# Altium integrated library Analog Devices Data Converters Digital-to-Analog Converters.IntLib: 2231 symbols (part 122 of 181)
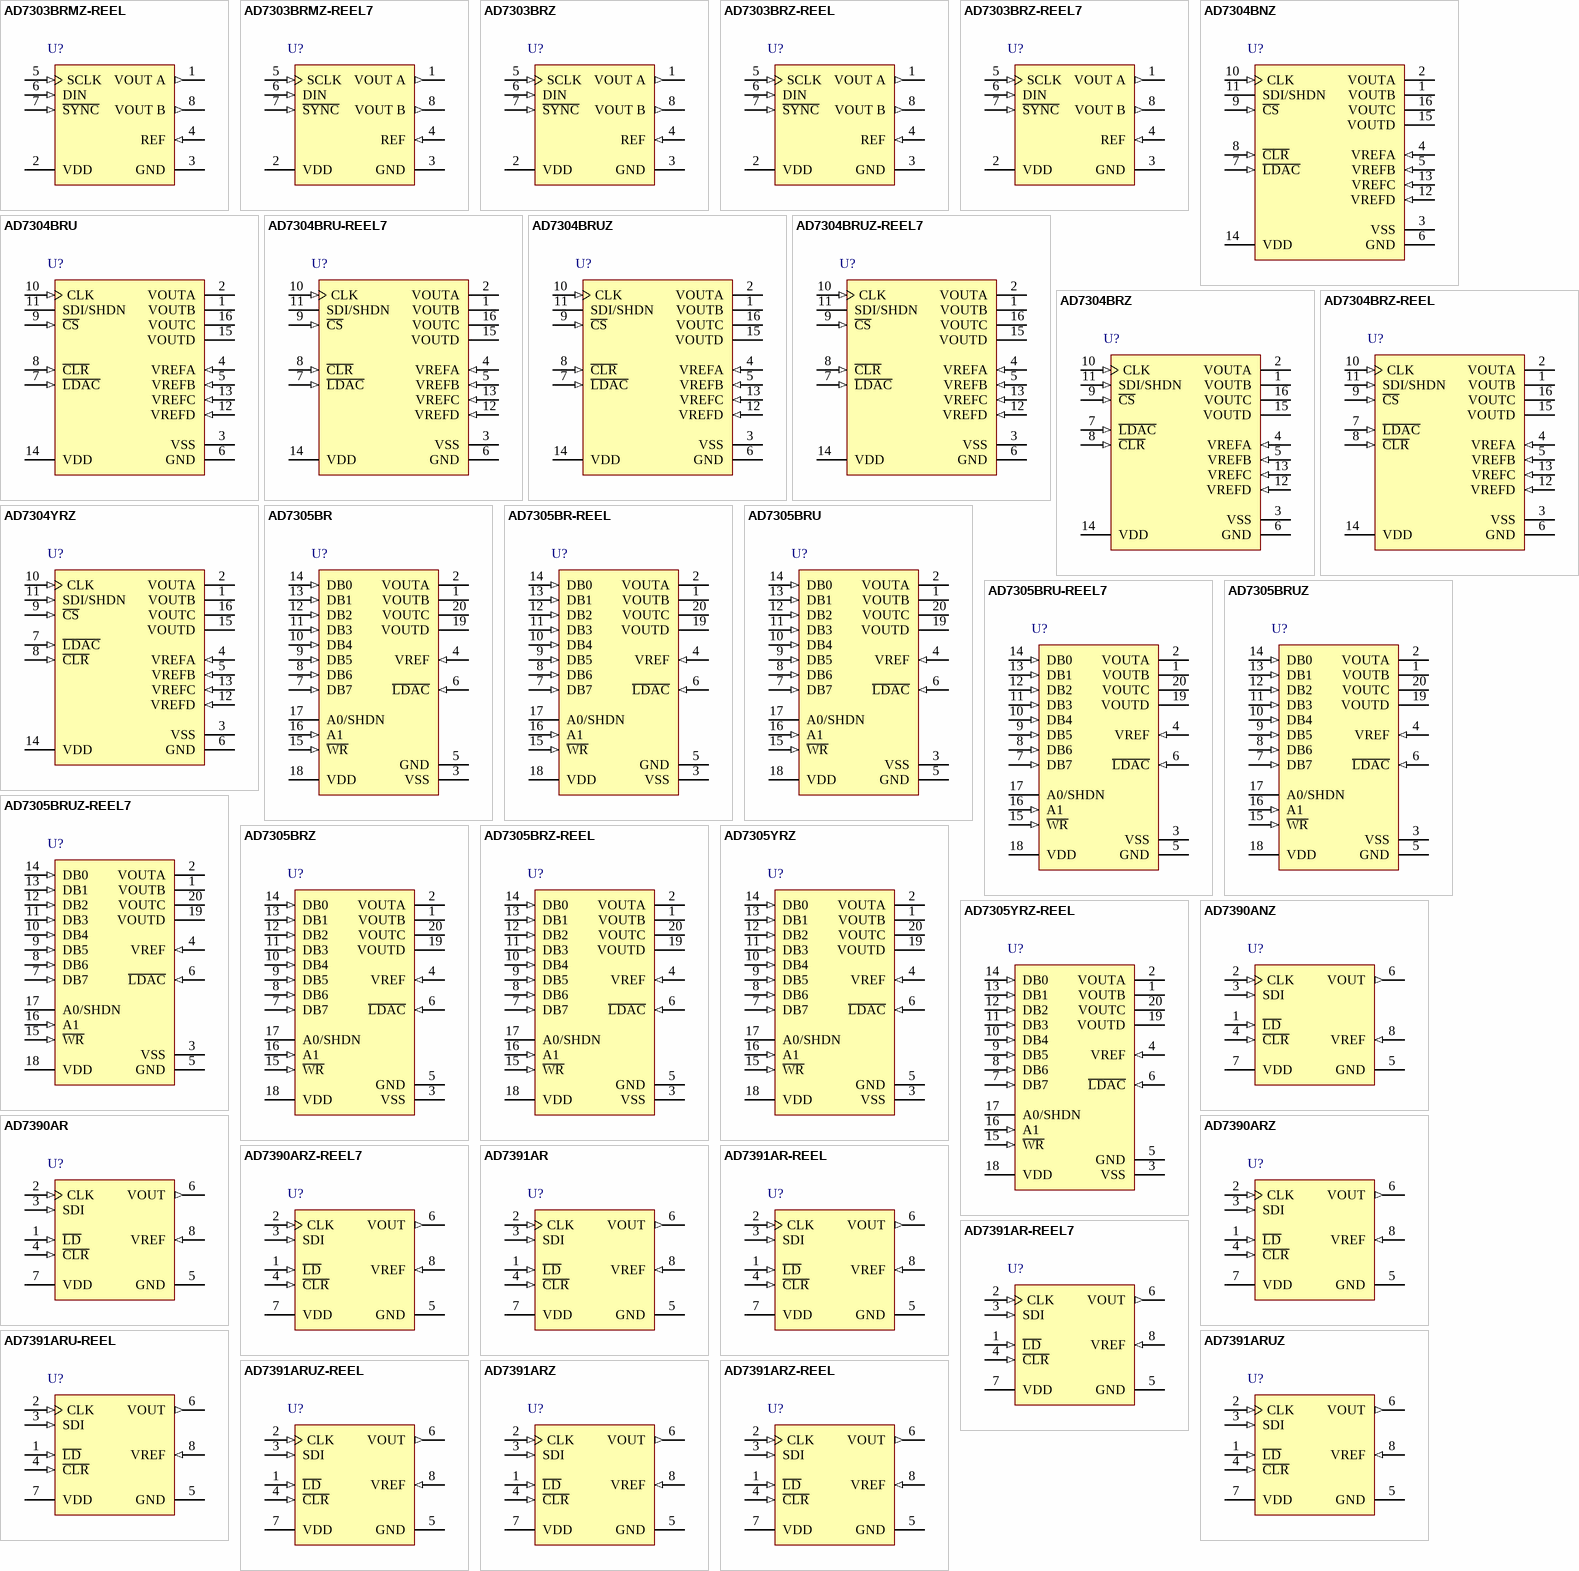
[diagram p235: symbols AD7303BRMZ-REEL to AD7391ARZ-REEL]

## AD7390AR
designator U?
Single 12-Bit Digital-to-Analog Converter with Serial Interface, -40 to 85 degC, R-8, Tube; Generic Part Number: AD7390; Manufacturer: Analog Devices; PartNumber: AD7390AR; # DAC Outputs: 1; Max V+: 5.5V; Op Pwr Diss: 500µW; Resolution (Bits): 12; Settling Time: 60µs; Single Supply: Yes; DatasheetVersion: Rev.A; PackageVersion: 060506-A; PackageReference: R-8; PackageDescription: 8-Lead Standard Small Outline Package [SOIC_N] Narrow Body; Supplier 1: Digi-Key; Supplier Part Number 1: AD7390AR-ND; Supplier 2: Mouser; Supplier Part Number 2: 584-AD7390AR; Packing: Tube; RoHS: N; Mounting Technology: Surface Mount; Code_JEDEC: MS-012-AA; Code_IPC: SOIC127P600-8; ComponentLink1Description: Manufacturer URL; ComponentLink1URL: http://www.analog.com/en/index.html; ComponentLink2Description: Datasheet; ComponentLink2URL: http://www.analog.com/static/imported-files/data_sheets/AD7390_7391.pdf; ComponentLink3Description: Package Specification; ComponentLink3URL: http://www.analog.com/static/imported-files/packages/PKG_PDF/SOIC_Narrow%20(R)/R_8.pdf; ComponentLink4Description: Product URL; ComponentLink4URL: http://www.analog.com/en/digital-to-analog-converters/da-converters/ad7390/products/product.html
footprint R-8_N (SOIC, 8-Leads, Body 4.9x3.9mm, Pitch 1.27mm, IPC Medium Density)
footprint R-8_L (SOIC, 8-Leads, Body 4.9x3.9mm, Pitch 1.27mm, IPC High Density)
footprint R-8_M (SOIC, 8-Leads, Body 4.9x3.9mm, Pitch 1.27mm, IPC Low Density)
pins: 1 ~{LD} (in) "Load Strobe. Transfers shift registerdata to DAC register while active low.See truth table for operation.", 2 CLK (in) "Clock Input. Positive edge clocks data into shift register.", 3 SDI (in) "Serial Data Input. Data loads directly into the shift register.", 4 ~{CLR} (in) "Resets DAC register to zero condition.Active low input.", 5 GND (power) "Analog and Digital Ground.", 6 VOUT (out) "DAC Voltage Output. Full-scale output 1 LSB less than reference input voltage REF.", 7 VDD (power) "Positive Power Supply Input. Specified range of operation 2.7 V to 5.5 V.", 8 VREF (in) "DAC Reference Input Pin. Establishes DAC full-scale voltage."

## AD7390ARZ
designator U?
Single 12-Bit Digital-to-Analog Converter with Serial Interface, -40 to 85 degC, R-8, Pb-Free, Tube; Generic Part Number: AD7390; Manufacturer: Analog Devices; PartNumber: AD7390ARZ; # DAC Outputs: 1; Max V+: 5.5V; Op Pwr Diss: 500µW; Resolution (Bits): 12; Settling Time: 60µs; Single Supply: Yes; DatasheetVersion: Rev.A; PackageVersion: 060506-A; PackageReference: R-8; PackageDescription: 8-Lead Standard Small Outline Package [SOIC_N] Narrow Body; Supplier 1: Digi-Key; Supplier Part Number 1: AD7390ARZ-ND; Supplier 2: Farnell; Supplier Part Number 2: 1498718; Supplier 3: Newark; Supplier Part Number 3: 15P0796; Supplier 4: Newark; Supplier Part Number 4: 59K4759; Supplier 5: Mouser; Supplier Part Number 5: 584-AD7390ARZ; Packing: Tube; RoHS: Y; Mounting Technology: Surface Mount; Code_JEDEC: MS-012-AA; Code_IPC: SOIC127P600-8; ComponentLink1Description: Manufacturer URL; ComponentLink1URL: http://www.analog.com/en/index.html; ComponentLink2Description: Datasheet; ComponentLink2URL: http://www.analog.com/static/imported-files/data_sheets/AD7390_7391.pdf; ComponentLink3Description: Package Specification; ComponentLink3URL: http://www.analog.com/static/imported-files/packages/PKG_PDF/SOIC_Narrow%20(R)/R_8.pdf; ComponentLink4Description: Product URL; ComponentLink4URL: http://www.analog.com/en/digital-to-analog-converters/da-converters/ad7390/products/product.html
footprint R-8_N (SOIC, 8-Leads, Body 4.9x3.9mm, Pitch 1.27mm, IPC Medium Density)
footprint R-8_L (SOIC, 8-Leads, Body 4.9x3.9mm, Pitch 1.27mm, IPC High Density)
footprint R-8_M (SOIC, 8-Leads, Body 4.9x3.9mm, Pitch 1.27mm, IPC Low Density)
pins: 1 ~{LD} (in) "Load Strobe. Transfers shift registerdata to DAC register while active low.See truth table for operation.", 2 CLK (in) "Clock Input. Positive edge clocks data into shift register.", 3 SDI (in) "Serial Data Input. Data loads directly into the shift register.", 4 ~{CLR} (in) "Resets DAC register to zero condition.Active low input.", 5 GND (power) "Analog and Digital Ground.", 6 VOUT (out) "DAC Voltage Output. Full-scale output 1 LSB less than reference input voltage REF.", 7 VDD (power) "Positive Power Supply Input. Specified range of operation 2.7 V to 5.5 V.", 8 VREF (in) "DAC Reference Input Pin. Establishes DAC full-scale voltage."

## AD7390ARZ-REEL7
designator U?
Single 12-Bit Digital-to-Analog Converter with Serial Interface, -40 to 85 degC, R-8, Pb-Free, Reel; Generic Part Number: AD7390; Manufacturer: Analog Devices; PartNumber: AD7390ARZ-REEL7; # DAC Outputs: 1; Max V+: 5.5V; Op Pwr Diss: 500µW; Resolution (Bits): 12; Settling Time: 60µs; Single Supply: Yes; DatasheetVersion: Rev.A; PackageVersion: 060506-A; PackageReference: R-8; PackageDescription: 8-Lead Standard Small Outline Package [SOIC_N] Narrow Body; Supplier 1: Digi-Key; Supplier Part Number 1: AD7390ARZ-REEL7TR-ND; Supplier 2: Digi-Key; Supplier Part Number 2: AD7390ARZ-REEL7CT-ND; Supplier 3: Digi-Key; Supplier Part Number 3: AD7390ARZ-REEL7DKR-ND; Supplier 4: Newark; Supplier Part Number 4: 59K4760; Supplier 5: Mouser; Supplier Part Number 5: 584-AD7390ARZ-R7; Packing: Reel; RoHS: Y; Mounting Technology: Surface Mount; Code_JEDEC: MS-012-AA; Code_IPC: SOIC127P600-8; ComponentLink1Description: Manufacturer URL; ComponentLink1URL: http://www.analog.com/en/index.html; ComponentLink2Description: Datasheet; ComponentLink2URL: http://www.analog.com/static/imported-files/data_sheets/AD7390_7391.pdf; ComponentLink3Description: Package Specification; ComponentLink3URL: http://www.analog.com/static/imported-files/packages/PKG_PDF/SOIC_Narrow%20(R)/R_8.pdf; ComponentLink4Description: Product URL; ComponentLink4URL: http://www.analog.com/en/digital-to-analog-converters/da-converters/ad7390/products/product.html
footprint R-8_N (SOIC, 8-Leads, Body 4.9x3.9mm, Pitch 1.27mm, IPC Medium Density)
footprint R-8_L (SOIC, 8-Leads, Body 4.9x3.9mm, Pitch 1.27mm, IPC High Density)
footprint R-8_M (SOIC, 8-Leads, Body 4.9x3.9mm, Pitch 1.27mm, IPC Low Density)
pins: 1 ~{LD} (in) "Load Strobe. Transfers shift registerdata to DAC register while active low.See truth table for operation.", 2 CLK (in) "Clock Input. Positive edge clocks data into shift register.", 3 SDI (in) "Serial Data Input. Data loads directly into the shift register.", 4 ~{CLR} (in) "Resets DAC register to zero condition.Active low input.", 5 GND (power) "Analog and Digital Ground.", 6 VOUT (out) "DAC Voltage Output. Full-scale output 1 LSB less than reference input voltage REF.", 7 VDD (power) "Positive Power Supply Input. Specified range of operation 2.7 V to 5.5 V.", 8 VREF (in) "DAC Reference Input Pin. Establishes DAC full-scale voltage."

## AD7391AR
designator U?
Single 10-Bit Digital-to-Analog Converter with Serial Interface, -40 to 125 degC, R-8, Tube; Generic Part Number: AD7391; Manufacturer: Analog Devices; PartNumber: AD7391AR; # DAC Outputs: 1; Max V+: 5.5V; Op Pwr Diss: 500µW; Resolution (Bits): 10; Settling Time: 60µs; Single Supply: Yes; DatasheetVersion: Rev.A; PackageVersion: 060506-A; PackageReference: R-8; PackageDescription: 8-Lead Standard Small Outline Package [SOIC_N] Narrow Body; Supplier 1: Digi-Key; Supplier Part Number 1: AD7391AR-ND; Supplier 2: Mouser; Supplier Part Number 2: 584-AD7391AR; Packing: Tube; RoHS: N; Mounting Technology: Surface Mount; Code_JEDEC: MS-012-AA; Code_IPC: SOIC127P600-8; ComponentLink1Description: Manufacturer URL; ComponentLink1URL: http://www.analog.com/en/index.html; ComponentLink2Description: Datasheet; ComponentLink2URL: http://www.analog.com/static/imported-files/data_sheets/AD7390_7391.pdf; ComponentLink3Description: Package Specification; ComponentLink3URL: http://www.analog.com/static/imported-files/packages/PKG_PDF/SOIC_Narrow%20(R)/R_8.pdf; ComponentLink4Description: Product URL; ComponentLink4URL: http://www.analog.com/en/digital-to-analog-converters/da-converters/ad7391/products/product.html
footprint R-8_N (SOIC, 8-Leads, Body 4.9x3.9mm, Pitch 1.27mm, IPC Medium Density)
footprint R-8_L (SOIC, 8-Leads, Body 4.9x3.9mm, Pitch 1.27mm, IPC High Density)
footprint R-8_M (SOIC, 8-Leads, Body 4.9x3.9mm, Pitch 1.27mm, IPC Low Density)
pins: 1 ~{LD} (in) "Load Strobe. Transfers shift register data to DAC register while active low.See truth table for operation.", 2 CLK (in) "Clock Input. Positive edge clocks data into shift register.", 3 SDI (in) "Serial Data Input. Data loads directly into the shift register.", 4 ~{CLR} (in) "Resets DAC register to zero condition.Active low input.", 5 GND (power) "Analog and Digital Ground.", 6 VOUT (out) "DAC Voltage Output. Full-scale output 1 LSB less than reference input voltage REF.", 7 VDD (power) "Positive Power Supply Input. Specified range of operation 2.7 V to 5.5 V.", 8 VREF (in) "DAC Reference Input Pin. Establishes DAC full-scale voltage."

## AD7391AR-REEL
designator U?
Single 10-Bit Digital-to-Analog Converter with Serial Interface, -40 to 125 degC, R-8, Reel; Generic Part Number: AD7391; Manufacturer: Analog Devices; PartNumber: AD7391AR-REEL; # DAC Outputs: 1; Max V+: 5.5V; Op Pwr Diss: 500µW; Resolution (Bits): 10; Settling Time: 60µs; Single Supply: Yes; DatasheetVersion: Rev.A; PackageVersion: 060506-A; PackageReference: R-8; PackageDescription: 8-Lead Standard Small Outline Package [SOIC_N] Narrow Body; Supplier 1: Digi-Key; Supplier Part Number 1: AD7391AR-REEL-ND; Supplier 2: Mouser; Supplier Part Number 2: 584-AD7391AR-R; Packing: Reel; RoHS: N; Mounting Technology: Surface Mount; Code_JEDEC: MS-012-AA; Code_IPC: SOIC127P600-8; ComponentLink1Description: Manufacturer URL; ComponentLink1URL: http://www.analog.com/en/index.html; ComponentLink2Description: Datasheet; ComponentLink2URL: http://www.analog.com/static/imported-files/data_sheets/AD7390_7391.pdf; ComponentLink3Description: Package Specification; ComponentLink3URL: http://www.analog.com/static/imported-files/packages/PKG_PDF/SOIC_Narrow%20(R)/R_8.pdf; ComponentLink4Description: Product URL; ComponentLink4URL: http://www.analog.com/en/digital-to-analog-converters/da-converters/ad7391/products/product.html
footprint R-8_N (SOIC, 8-Leads, Body 4.9x3.9mm, Pitch 1.27mm, IPC Medium Density)
footprint R-8_L (SOIC, 8-Leads, Body 4.9x3.9mm, Pitch 1.27mm, IPC High Density)
footprint R-8_M (SOIC, 8-Leads, Body 4.9x3.9mm, Pitch 1.27mm, IPC Low Density)
pins: 1 ~{LD} (in) "Load Strobe. Transfers shift register data to DAC register while active low.See truth table for operation.", 2 CLK (in) "Clock Input. Positive edge clocks data into shift register.", 3 SDI (in) "Serial Data Input. Data loads directly into the shift register.", 4 ~{CLR} (in) "Resets DAC register to zero condition.Active low input.", 5 GND (power) "Analog and Digital Ground.", 6 VOUT (out) "DAC Voltage Output. Full-scale output 1 LSB less than reference input voltage REF.", 7 VDD (power) "Positive Power Supply Input. Specified range of operation 2.7 V to 5.5 V.", 8 VREF (in) "DAC Reference Input Pin. Establishes DAC full-scale voltage."

## AD7391AR-REEL7
designator U?
Single 10-Bit Digital-to-Analog Converter with Serial Interface, -40 to 125 degC, R-8, Reel; Generic Part Number: AD7391; Manufacturer: Analog Devices; PartNumber: AD7391AR-REEL7; # DAC Outputs: 1; Max V+: 5.5V; Op Pwr Diss: 500µW; Resolution (Bits): 10; Settling Time: 60µs; Single Supply: Yes; DatasheetVersion: Rev.A; PackageVersion: 060506-A; PackageReference: R-8; PackageDescription: 8-Lead Standard Small Outline Package [SOIC_N] Narrow Body; Supplier 1: Digi-Key; Supplier Part Number 1: AD7391AR-REEL7-ND; Supplier 2: Mouser; Supplier Part Number 2: 584-AD7391AR-R7; Packing: Reel; RoHS: N; Mounting Technology: Surface Mount; Code_JEDEC: MS-012-AA; Code_IPC: SOIC127P600-8; ComponentLink1Description: Manufacturer URL; ComponentLink1URL: http://www.analog.com/en/index.html; ComponentLink2Description: Datasheet; ComponentLink2URL: http://www.analog.com/static/imported-files/data_sheets/AD7390_7391.pdf; ComponentLink3Description: Package Specification; ComponentLink3URL: http://www.analog.com/static/imported-files/packages/PKG_PDF/SOIC_Narrow%20(R)/R_8.pdf; ComponentLink4Description: Product URL; ComponentLink4URL: http://www.analog.com/en/digital-to-analog-converters/da-converters/ad7391/products/product.html
footprint R-8_N (SOIC, 8-Leads, Body 4.9x3.9mm, Pitch 1.27mm, IPC Medium Density)
footprint R-8_L (SOIC, 8-Leads, Body 4.9x3.9mm, Pitch 1.27mm, IPC High Density)
footprint R-8_M (SOIC, 8-Leads, Body 4.9x3.9mm, Pitch 1.27mm, IPC Low Density)
pins: 1 ~{LD} (in) "Load Strobe. Transfers shift register data to DAC register while active low.See truth table for operation.", 2 CLK (in) "Clock Input. Positive edge clocks data into shift register.", 3 SDI (in) "Serial Data Input. Data loads directly into the shift register.", 4 ~{CLR} (in) "Resets DAC register to zero condition.Active low input.", 5 GND (power) "Analog and Digital Ground.", 6 VOUT (out) "DAC Voltage Output. Full-scale output 1 LSB less than reference input voltage REF.", 7 VDD (power) "Positive Power Supply Input. Specified range of operation 2.7 V to 5.5 V.", 8 VREF (in) "DAC Reference Input Pin. Establishes DAC full-scale voltage."

## AD7391ARU-REEL
designator U?
Single 10-Bit Digital-to-Analog Converter with Serial Interface, -40 to +85 degC, RU-8, Reel; Generic Part Number: AD7391; Manufacturer: Analog Devices; PartNumber: AD7391ARU-REEL; # DAC Outputs: 1; Max V+: 5.5V; Op Pwr Diss: 500µW; Resolution (Bits): 10; Settling Time: 60µs; Single Supply: Yes; DatasheetVersion: Rev.A; PackageVersion: 1997; PackageReference: RU-8; PackageDescription: 8-Pin Thin Small Outline Package 0.65 mm Pitch; Supplier 1: Digi-Key; Supplier Part Number 1: AD7391ARU-REELTR-ND; Supplier 2: Digi-Key; Supplier Part Number 2: AD7391ARU-REELCT-ND; Supplier 3: Digi-Key; Supplier Part Number 3: AD7391ARU-REELDKR-ND; Supplier 4: Mouser; Supplier Part Number 4: 584-AD7391ARU-R; Packing: Reel; RoHS: N; Mounting Technology: Surface Mount; ComponentLink1Description: Manufacturer URL; ComponentLink1URL: http://www.analog.com/en/index.html; ComponentLink2Description: Datasheet; ComponentLink2URL: http://www.analog.com/static/imported-files/data_sheets/AD7390_7391.pdf; ComponentLink3Description: Package Specification; ComponentLink3URL: http://www.analog.com/static/imported-files/packages/359224089841708504863856053953356548880RU08.pdf; ComponentLink4Description: Product URL; ComponentLink4URL: http://www.analog.com/en/digital-to-analog-converters/da-converters/ad7391/products/product.html
footprint RU-8_N (TSOP, 8-Leads, Body 3x4.4mm, Pitch 0.65mm, IPC Medium Density)
footprint RU-8_L (TSOP, 8-Leads, Body 3x4.4mm, Pitch 0.65mm, IPC High Density)
footprint RU-8_M (TSOP, 8-Leads, Body 3x4.4mm, Pitch 0.65mm, IPC Low Density)
pins: 1 ~{LD} (in) "Load Strobe. Transfers shift register data to DAC register while active low.See truth table for operation.", 2 CLK (in) "Clock Input. Positive edge clocks data into shift register.", 3 SDI (in) "Serial Data Input. Data loads directly into the shift register.", 4 ~{CLR} (in) "Resets DAC register to zero condition.Active low input.", 5 GND (power) "Analog and Digital Ground.", 6 VOUT (out) "DAC Voltage Output. Full-scale output 1 LSB less than reference input voltage REF.", 7 VDD (power) "Positive Power Supply Input. Specified range of operation 2.7 V to 5.5 V.", 8 VREF (in) "DAC Reference Input Pin. Establishes DAC full-scale voltage."

## AD7391ARUZ
designator U?
Single 10-Bit Digital-to-Analog Converter with Serial Interface, -40 to 85 degC, RU-8, Pb-Free, Tube; Generic Part Number: AD7391; Manufacturer: Analog Devices; PartNumber: AD7391ARUZ; # DAC Outputs: 1; Max V+: 5.5V; Op Pwr Diss: 500µW; Resolution (Bits): 10; Settling Time: 60µs; Single Supply: Yes; DatasheetVersion: Rev.A; PackageVersion: 1997; PackageReference: RU-8; PackageDescription: 8-Pin Thin Small Outline Package 0.65 mm Pitch; Supplier 1: Digi-Key; Supplier Part Number 1: AD7391ARUZ-ND; Supplier 2: Mouser; Supplier Part Number 2: 584-AD7391ARUZ; Packing: Tube; RoHS: Y; Mounting Technology: Surface Mount; ComponentLink1Description: Manufacturer URL; ComponentLink1URL: http://www.analog.com/en/index.html; ComponentLink2Description: Datasheet; ComponentLink2URL: http://www.analog.com/static/imported-files/data_sheets/AD7390_7391.pdf; ComponentLink3Description: Package Specification; ComponentLink3URL: http://www.analog.com/static/imported-files/packages/359224089841708504863856053953356548880RU08.pdf; ComponentLink4Description: Product URL; ComponentLink4URL: http://www.analog.com/en/digital-to-analog-converters/da-converters/ad7391/products/product.html
footprint RU-8_N (TSOP, 8-Leads, Body 3x4.4mm, Pitch 0.65mm, IPC Medium Density)
footprint RU-8_L (TSOP, 8-Leads, Body 3x4.4mm, Pitch 0.65mm, IPC High Density)
footprint RU-8_M (TSOP, 8-Leads, Body 3x4.4mm, Pitch 0.65mm, IPC Low Density)
pins: 1 ~{LD} (in) "Load Strobe. Transfers shift register data to DAC register while active low.See truth table for operation.", 2 CLK (in) "Clock Input. Positive edge clocks data into shift register.", 3 SDI (in) "Serial Data Input. Data loads directly into the shift register.", 4 ~{CLR} (in) "Resets DAC register to zero condition.Active low input.", 5 GND (power) "Analog and Digital Ground.", 6 VOUT (out) "DAC Voltage Output. Full-scale output 1 LSB less than reference input voltage REF.", 7 VDD (power) "Positive Power Supply Input. Specified range of operation 2.7 V to 5.5 V.", 8 VREF (in) "DAC Reference Input Pin. Establishes DAC full-scale voltage."

## AD7391ARUZ-REEL
designator U?
Single 10-Bit Digital-to-Analog Converter with Serial Interface, -40 to 85 degC, RU-8, Pb-Free, Reel; Generic Part Number: AD7391; Manufacturer: Analog Devices; PartNumber: AD7391ARUZ-REEL; # DAC Outputs: 1; Max V+: 5.5V; Op Pwr Diss: 500µW; Resolution (Bits): 10; Settling Time: 60µs; Single Supply: Yes; DatasheetVersion: Rev.A; PackageVersion: 1997; PackageReference: RU-8; PackageDescription: 8-Pin Thin Small Outline Package 0.65 mm Pitch; Supplier 1: Digi-Key; Supplier Part Number 1: AD7391ARUZ-REEL-ND; Supplier 2: Mouser; Supplier Part Number 2: 584-AD7391ARUZ-R; Packing: Reel; RoHS: Y; Mounting Technology: Surface Mount; ComponentLink1Description: Manufacturer URL; ComponentLink1URL: http://www.analog.com/en/index.html; ComponentLink2Description: Datasheet; ComponentLink2URL: http://www.analog.com/static/imported-files/data_sheets/AD7390_7391.pdf; ComponentLink3Description: Package Specification; ComponentLink3URL: http://www.analog.com/static/imported-files/packages/359224089841708504863856053953356548880RU08.pdf; ComponentLink4Description: Product URL; ComponentLink4URL: http://www.analog.com/en/digital-to-analog-converters/da-converters/ad7391/products/product.html
footprint RU-8_N (TSOP, 8-Leads, Body 3x4.4mm, Pitch 0.65mm, IPC Medium Density)
footprint RU-8_L (TSOP, 8-Leads, Body 3x4.4mm, Pitch 0.65mm, IPC High Density)
footprint RU-8_M (TSOP, 8-Leads, Body 3x4.4mm, Pitch 0.65mm, IPC Low Density)
pins: 1 ~{LD} (in) "Load Strobe. Transfers shift register data to DAC register while active low.See truth table for operation.", 2 CLK (in) "Clock Input. Positive edge clocks data into shift register.", 3 SDI (in) "Serial Data Input. Data loads directly into the shift register.", 4 ~{CLR} (in) "Resets DAC register to zero condition.Active low input.", 5 GND (power) "Analog and Digital Ground.", 6 VOUT (out) "DAC Voltage Output. Full-scale output 1 LSB less than reference input voltage REF.", 7 VDD (power) "Positive Power Supply Input. Specified range of operation 2.7 V to 5.5 V.", 8 VREF (in) "DAC Reference Input Pin. Establishes DAC full-scale voltage."

## AD7391ARZ
designator U?
Single 10-Bit Digital-to-Analog Converter with Serial Interface, -40 to 125 degC, R-8, Pb-Free, Tube; Generic Part Number: AD7391; Manufacturer: Analog Devices; PartNumber: AD7391ARZ; # DAC Outputs: 1; Max V+: 5.5V; Op Pwr Diss: 500µW; Resolution (Bits): 10; Settling Time: 60µs; Single Supply: Yes; DatasheetVersion: Rev.A; PackageVersion: 060506-A; PackageReference: R-8; PackageDescription: 8-Lead Standard Small Outline Package [SOIC_N] Narrow Body; Supplier 1: Digi-Key; Supplier Part Number 1: AD7391ARZ-ND; Supplier 2: Farnell; Supplier Part Number 2: 1498720; Supplier 3: Newark; Supplier Part Number 3: 15P0798; Supplier 4: Newark; Supplier Part Number 4: 59K4761; Supplier 5: Mouser; Supplier Part Number 5: 584-AD7391ARZ; Packing: Tube; RoHS: Y; Mounting Technology: Surface Mount; Code_JEDEC: MS-012-AA; Code_IPC: SOIC127P600-8; ComponentLink1Description: Manufacturer URL; ComponentLink1URL: http://www.analog.com/en/index.html; ComponentLink2Description: Datasheet; ComponentLink2URL: http://www.analog.com/static/imported-files/data_sheets/AD7390_7391.pdf; ComponentLink3Description: Package Specification; ComponentLink3URL: http://www.analog.com/static/imported-files/packages/PKG_PDF/SOIC_Narrow%20(R)/R_8.pdf; ComponentLink4Description: Product URL; ComponentLink4URL: http://www.analog.com/en/digital-to-analog-converters/da-converters/ad7391/products/product.html
footprint R-8_N (SOIC, 8-Leads, Body 4.9x3.9mm, Pitch 1.27mm, IPC Medium Density)
footprint R-8_L (SOIC, 8-Leads, Body 4.9x3.9mm, Pitch 1.27mm, IPC High Density)
footprint R-8_M (SOIC, 8-Leads, Body 4.9x3.9mm, Pitch 1.27mm, IPC Low Density)
pins: 1 ~{LD} (in) "Load Strobe. Transfers shift register data to DAC register while active low.See truth table for operation.", 2 CLK (in) "Clock Input. Positive edge clocks data into shift register.", 3 SDI (in) "Serial Data Input. Data loads directly into the shift register.", 4 ~{CLR} (in) "Resets DAC register to zero condition.Active low input.", 5 GND (power) "Analog and Digital Ground.", 6 VOUT (out) "DAC Voltage Output. Full-scale output 1 LSB less than reference input voltage REF.", 7 VDD (power) "Positive Power Supply Input. Specified range of operation 2.7 V to 5.5 V.", 8 VREF (in) "DAC Reference Input Pin. Establishes DAC full-scale voltage."

## AD7391ARZ-REEL
designator U?
Single 10-Bit Digital-to-Analog Converter with Serial Interface, -40 to 125 degC, R-8, Pb-Free, Reel; Generic Part Number: AD7391; Manufacturer: Analog Devices; PartNumber: AD7391ARZ-REEL; # DAC Outputs: 1; Max V+: 5.5V; Op Pwr Diss: 500µW; Resolution (Bits): 10; Settling Time: 60µs; Single Supply: Yes; DatasheetVersion: Rev.A; PackageVersion: 060506-A; PackageReference: R-8; PackageDescription: 8-Lead Standard Small Outline Package [SOIC_N] Narrow Body; Supplier 1: Digi-Key; Supplier Part Number 1: AD7391ARZ-REEL-ND; Supplier 2: Mouser; Supplier Part Number 2: 584-AD7391ARZ-R; Packing: Reel; RoHS: Y; Mounting Technology: Surface Mount; Code_JEDEC: MS-012-AA; Code_IPC: SOIC127P600-8; ComponentLink1Description: Manufacturer URL; ComponentLink1URL: http://www.analog.com/en/index.html; ComponentLink2Description: Datasheet; ComponentLink2URL: http://www.analog.com/static/imported-files/data_sheets/AD7390_7391.pdf; ComponentLink3Description: Package Specification; ComponentLink3URL: http://www.analog.com/static/imported-files/packages/PKG_PDF/SOIC_Narrow%20(R)/R_8.pdf; ComponentLink4Description: Product URL; ComponentLink4URL: http://www.analog.com/en/digital-to-analog-converters/da-converters/ad7391/products/product.html
footprint R-8_N (SOIC, 8-Leads, Body 4.9x3.9mm, Pitch 1.27mm, IPC Medium Density)
footprint R-8_L (SOIC, 8-Leads, Body 4.9x3.9mm, Pitch 1.27mm, IPC High Density)
footprint R-8_M (SOIC, 8-Leads, Body 4.9x3.9mm, Pitch 1.27mm, IPC Low Density)
pins: 1 ~{LD} (in) "Load Strobe. Transfers shift register data to DAC register while active low.See truth table for operation.", 2 CLK (in) "Clock Input. Positive edge clocks data into shift register.", 3 SDI (in) "Serial Data Input. Data loads directly into the shift register.", 4 ~{CLR} (in) "Resets DAC register to zero condition.Active low input.", 5 GND (power) "Analog and Digital Ground.", 6 VOUT (out) "DAC Voltage Output. Full-scale output 1 LSB less than reference input voltage REF.", 7 VDD (power) "Positive Power Supply Input. Specified range of operation 2.7 V to 5.5 V.", 8 VREF (in) "DAC Reference Input Pin. Establishes DAC full-scale voltage."

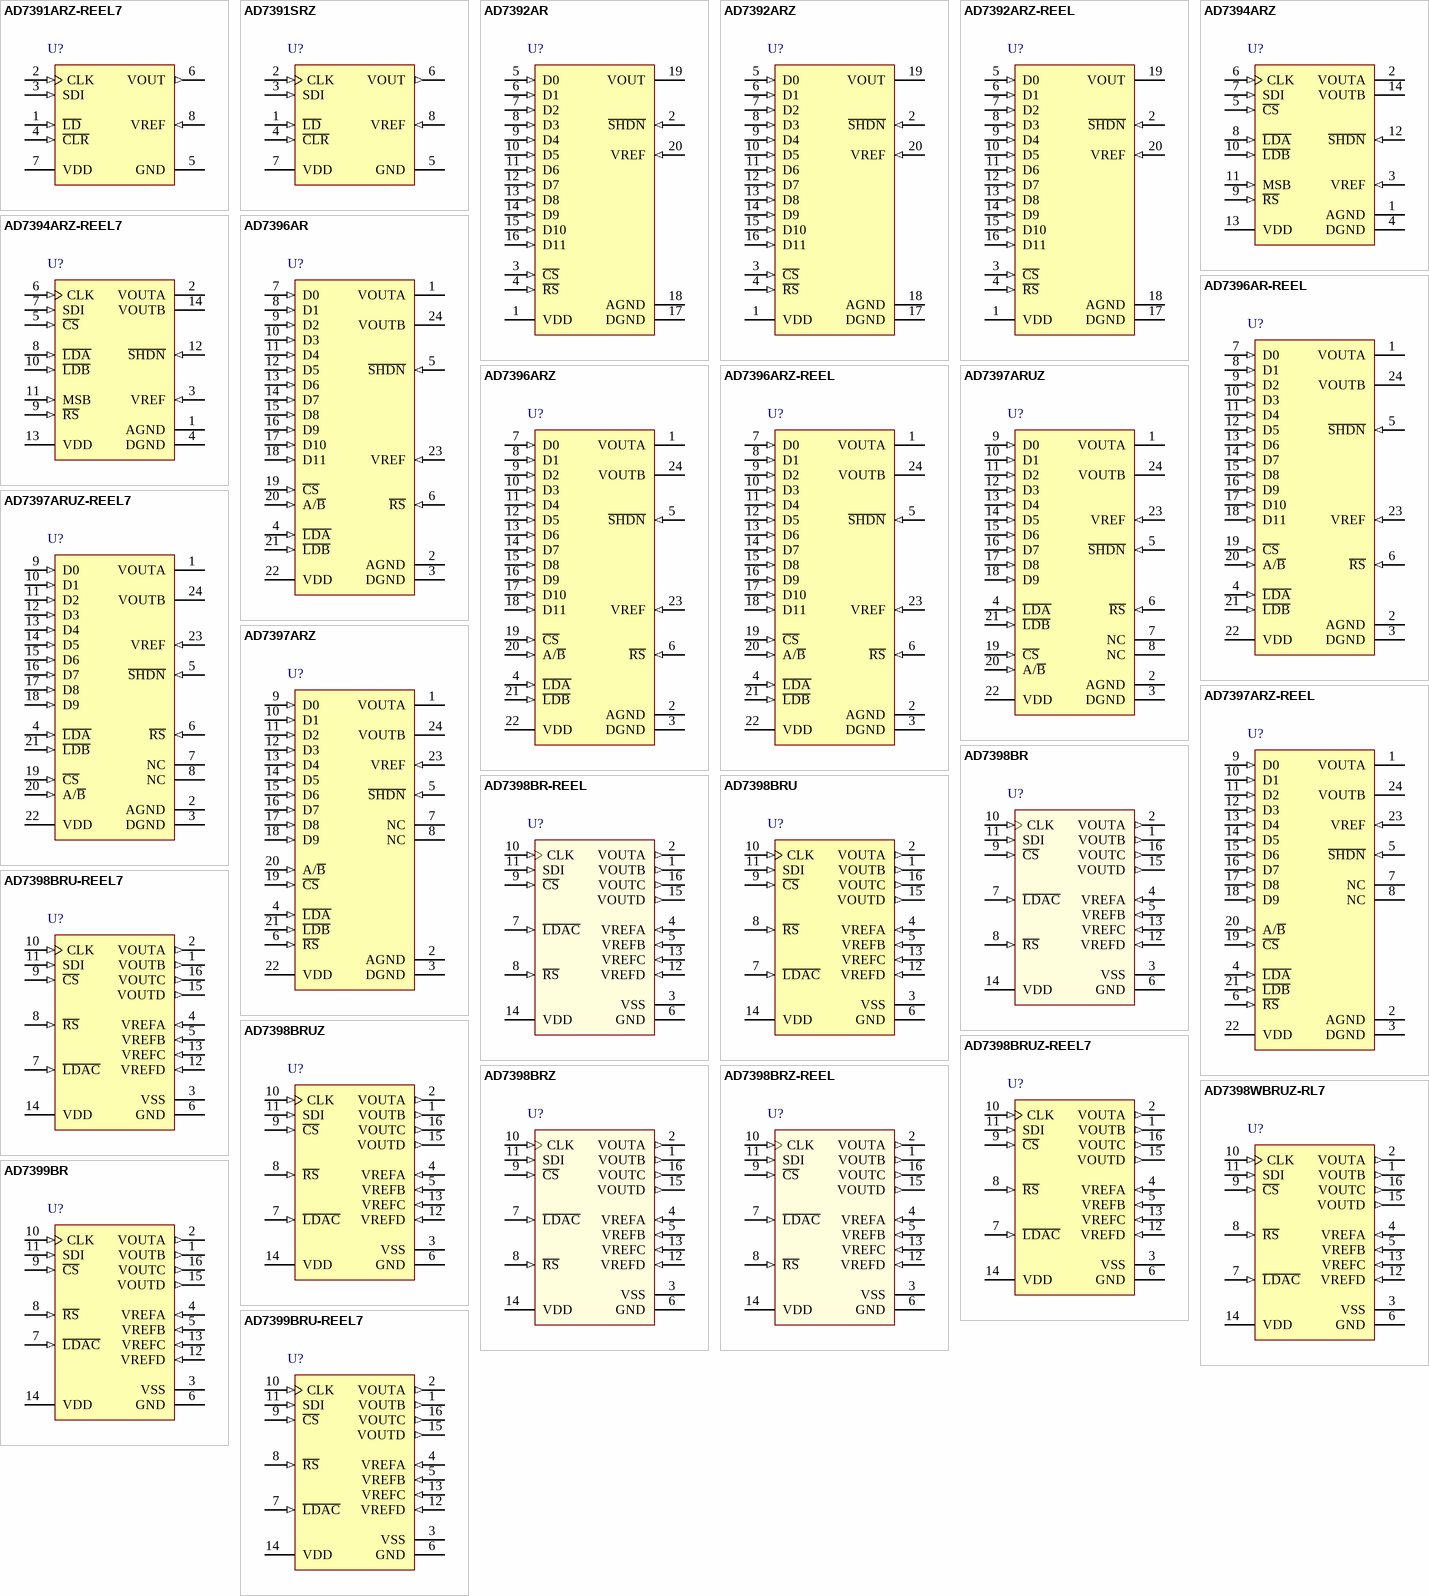
[diagram p65: symbols AD7391ARZ-REEL7 to AD7399BRU-REEL7]

## AD7391ARZ-REEL7
designator U?
Single 10-Bit Digital-to-Analog Converter with Serial Interface, -40 to 125 degC, R-8, Pb-Free, Reel; Generic Part Number: AD7391; Manufacturer: Analog Devices; PartNumber: AD7391ARZ-REEL7; # DAC Outputs: 1; Max V+: 5.5V; Op Pwr Diss: 500µW; Resolution (Bits): 10; Settling Time: 60µs; Single Supply: Yes; DatasheetVersion: Rev.A; PackageVersion: 060506-A; PackageReference: R-8; PackageDescription: 8-Lead Standard Small Outline Package [SOIC_N] Narrow Body; Supplier 1: Digi-Key; Supplier Part Number 1: AD7391ARZ-REEL7-ND; Supplier 2: Mouser; Supplier Part Number 2: 584-AD7391ARZ-R7; Packing: Reel; RoHS: Y; Mounting Technology: Surface Mount; Code_JEDEC: MS-012-AA; Code_IPC: SOIC127P600-8; ComponentLink1Description: Manufacturer URL; ComponentLink1URL: http://www.analog.com/en/index.html; ComponentLink2Description: Datasheet; ComponentLink2URL: http://www.analog.com/static/imported-files/data_sheets/AD7390_7391.pdf; ComponentLink3Description: Package Specification; ComponentLink3URL: http://www.analog.com/static/imported-files/packages/PKG_PDF/SOIC_Narrow%20(R)/R_8.pdf; ComponentLink4Description: Product URL; ComponentLink4URL: http://www.analog.com/en/digital-to-analog-converters/da-converters/ad7391/products/product.html
footprint R-8_N (SOIC, 8-Leads, Body 4.9x3.9mm, Pitch 1.27mm, IPC Medium Density)
footprint R-8_L (SOIC, 8-Leads, Body 4.9x3.9mm, Pitch 1.27mm, IPC High Density)
footprint R-8_M (SOIC, 8-Leads, Body 4.9x3.9mm, Pitch 1.27mm, IPC Low Density)
pins: 1 ~{LD} (in) "Load Strobe. Transfers shift register data to DAC register while active low.See truth table for operation.", 2 CLK (in) "Clock Input. Positive edge clocks data into shift register.", 3 SDI (in) "Serial Data Input. Data loads directly into the shift register.", 4 ~{CLR} (in) "Resets DAC register to zero condition.Active low input.", 5 GND (power) "Analog and Digital Ground.", 6 VOUT (out) "DAC Voltage Output. Full-scale output 1 LSB less than reference input voltage REF.", 7 VDD (power) "Positive Power Supply Input. Specified range of operation 2.7 V to 5.5 V.", 8 VREF (in) "DAC Reference Input Pin. Establishes DAC full-scale voltage."

## AD7391SRZ
designator U?
Single 10-Bit Digital-to-Analog Converter with Serial Interface, -55 to 125 degC, R-8, Pb-Free, Tube; Generic Part Number: AD7391; Manufacturer: Analog Devices; PartNumber: AD7391SRZ; # DAC Outputs: 1; Max V+: 5.5V; Op Pwr Diss: 500µW; Resolution (Bits): 10; Settling Time: 60µs; Single Supply: Yes; DatasheetVersion: Rev.A; PackageVersion: 060506-A; PackageReference: R-8; PackageDescription: 8-Lead Standard Small Outline Package [SOIC_N] Narrow Body; Supplier 1: Digi-Key; Supplier Part Number 1: AD7391SRZ-ND; Supplier 2: Mouser; Supplier Part Number 2: 584-AD7391SRZ; Packing: Tube; RoHS: Y; Mounting Technology: Surface Mount; Code_JEDEC: MS-012-AA; Code_IPC: SOIC127P600-8; ComponentLink1Description: Manufacturer URL; ComponentLink1URL: http://www.analog.com/en/index.html; ComponentLink2Description: Datasheet; ComponentLink2URL: http://www.analog.com/static/imported-files/data_sheets/AD7390_7391.pdf; ComponentLink3Description: Package Specification; ComponentLink3URL: http://www.analog.com/static/imported-files/packages/PKG_PDF/SOIC_Narrow%20(R)/R_8.pdf; ComponentLink4Description: Product URL; ComponentLink4URL: http://www.analog.com/en/digital-to-analog-converters/da-converters/ad7391/products/product.html
footprint R-8_N (SOIC, 8-Leads, Body 4.9x3.9mm, Pitch 1.27mm, IPC Medium Density)
footprint R-8_L (SOIC, 8-Leads, Body 4.9x3.9mm, Pitch 1.27mm, IPC High Density)
footprint R-8_M (SOIC, 8-Leads, Body 4.9x3.9mm, Pitch 1.27mm, IPC Low Density)
pins: 1 ~{LD} (in) "Load Strobe. Transfers shift register data to DAC register while active low.See truth table for operation.", 2 CLK (in) "Clock Input. Positive edge clocks data into shift register.", 3 SDI (in) "Serial Data Input. Data loads directly into the shift register.", 4 ~{CLR} (in) "Resets DAC register to zero condition.Active low input.", 5 GND (power) "Analog and Digital Ground.", 6 VOUT (out) "DAC Voltage Output. Full-scale output 1 LSB less than reference input voltage REF.", 7 VDD (power) "Positive Power Supply Input. Specified range of operation 2.7 V to 5.5 V.", 8 VREF (in) "DAC Reference Input Pin. Establishes DAC full-scale voltage."

## AD7392AR
designator U?
Single 12-Bit Digital-to-Analog Converter with Parallel Interface, 3 V, -40 to +85 degC, RW-20, Tube; Generic Part Number: AD7392; Manufacturer: Analog Devices; PartNumber: AD7392AR; # DAC Outputs: 1; Max V+: 5.5V; Op Pwr Diss: 300µW; Resolution (Bits): 12; Settling Time: 60µs; Single Supply: Yes; DatasheetVersion: Rev.C; PackageVersion: 060706-A; PackageReference: RW-20; PackageDescription: 20-Lead Standard Small Outline Package [SOIC_W] Wide Body; Supplier 1: Digi-Key; Supplier Part Number 1: AD7392AR-ND; Supplier 2: Mouser; Supplier Part Number 2: 584-AD7392AR; Packing: Tube; RoHS: N; Mounting Technology: Surface Mount; Code_JEDEC: MS-013-AC; ComponentLink1Description: Manufacturer URL; ComponentLink1URL: http://www.analog.com/en/index.html; ComponentLink2Description: Datasheet; ComponentLink2URL: http://www.analog.com/static/imported-files/data_sheets/AD7392_7393.pdf; ComponentLink3Description: Package Specification; ComponentLink3URL: http://www.analog.com/static/imported-files/packages/233848RW_20.pdf; ComponentLink4Description: Product URL; ComponentLink4URL: http://www.analog.com/en/digital-to-analog-converters/da-converters/ad7392/products/product.html
footprint RW-20_N (SOIC, 20-Leads, Body 12.8x7.5mm, Pitch 1.27mm, IPC Medium Density)
footprint RW-20_L (SOIC, 20-Leads, Body 12.8x7.5mm, Pitch 1.27mm, IPC High Density)
footprint RW-20_M (SOIC, 20-Leads, Body 12.8x7.5mm, Pitch 1.27mm, IPC Low Density)
pins: 1 VDD (power) "Positive Power Supply Input. The specified range of operation is 2.7 V to 5.5 V.", 2 ~{SHDN} (in) "Power Shutdown Active Low Input. DAC register contents are saved as long as power stays on the VDD pin. When S\H\D\N\ = 0, C\S\ strobes write new data into the DAC register.", 3 ~{CS} (in) "Chip Select Latch Enable, Active Low.", 4 ~{RS} (in) "Asynchronous Active Low Input. Resets the DAC register to 0.", 5 D0 (in) "Parallel Input Data Bit. D0 is the LSB.", 6 D1 (in) "Parallel Input Data Bit.", 7 D2 (in) "Parallel Input Data Bit.", 8 D3 (in) "Parallel Input Data Bit.", 9 D4 (in) "Parallel Input Data Bit.", 10 D5 (in) "Parallel Input Data Bit.", 11 D6 (in) "Parallel Input Data Bit.", 12 D7 (in) "Parallel Input Data Bit.", 13 D8 (in) "Parallel Input Data Bit.", 14 D9 (in) "Parallel Input Data Bit.", 15 D10 (in) "Parallel Input Data Bit.", 16 D11 (in) "Parallel Input Data Bit.D11 is the MSB.", 17 DGND (power) "Digital Ground.", 18 AGND (power) "Analog Ground.", 19 VOUT (hiz) "DAC Voltage Output.", 20 VREF (in) "DAC Reference Input. Establishes the DAC full-scale voltage."

## AD7392ARZ
designator U?
Single 12-Bit Digital-to-Analog Converter with Parallel Interface, 3 V, -40 to +85 degC, RW-20, Pb-Free, Tube; Generic Part Number: AD7392; Manufacturer: Analog Devices; PartNumber: AD7392ARZ; # DAC Outputs: 1; Max V+: 5.5V; Op Pwr Diss: 300µW; Resolution (Bits): 12; Settling Time: 60µs; Single Supply: Yes; DatasheetVersion: Rev.C; PackageVersion: 060706-A; PackageReference: RW-20; PackageDescription: 20-Lead Standard Small Outline Package [SOIC_W] Wide Body; Supplier 1: Digi-Key; Supplier Part Number 1: AD7392ARZ-ND; Supplier 2: Farnell; Supplier Part Number 2: 1438405; Supplier 3: Newark; Supplier Part Number 3: 59K4765; Supplier 4: Mouser; Supplier Part Number 4: 584-AD7392ARZ; Packing: Tube; RoHS: Y; Mounting Technology: Surface Mount; Code_JEDEC: MS-013-AC; ComponentLink1Description: Manufacturer URL; ComponentLink1URL: http://www.analog.com/en/index.html; ComponentLink2Description: Datasheet; ComponentLink2URL: http://www.analog.com/static/imported-files/data_sheets/AD7392_7393.pdf; ComponentLink3Description: Package Specification; ComponentLink3URL: http://www.analog.com/static/imported-files/packages/233848RW_20.pdf; ComponentLink4Description: Product URL; ComponentLink4URL: http://www.analog.com/en/digital-to-analog-converters/da-converters/ad7392/products/product.html
footprint RW-20_N (SOIC, 20-Leads, Body 12.8x7.5mm, Pitch 1.27mm, IPC Medium Density)
footprint RW-20_L (SOIC, 20-Leads, Body 12.8x7.5mm, Pitch 1.27mm, IPC High Density)
footprint RW-20_M (SOIC, 20-Leads, Body 12.8x7.5mm, Pitch 1.27mm, IPC Low Density)
pins: 1 VDD (power) "Positive Power Supply Input. The specified range of operation is 2.7 V to 5.5 V.", 2 ~{SHDN} (in) "Power Shutdown Active Low Input. DAC register contents are saved as long as power stays on the VDD pin. When S\H\D\N\ = 0, C\S\ strobes write new data into the DAC register.", 3 ~{CS} (in) "Chip Select Latch Enable, Active Low.", 4 ~{RS} (in) "Asynchronous Active Low Input. Resets the DAC register to 0.", 5 D0 (in) "Parallel Input Data Bit. D0 is the LSB.", 6 D1 (in) "Parallel Input Data Bit.", 7 D2 (in) "Parallel Input Data Bit.", 8 D3 (in) "Parallel Input Data Bit.", 9 D4 (in) "Parallel Input Data Bit.", 10 D5 (in) "Parallel Input Data Bit.", 11 D6 (in) "Parallel Input Data Bit.", 12 D7 (in) "Parallel Input Data Bit.", 13 D8 (in) "Parallel Input Data Bit.", 14 D9 (in) "Parallel Input Data Bit.", 15 D10 (in) "Parallel Input Data Bit.", 16 D11 (in) "Parallel Input Data Bit.D11 is the MSB.", 17 DGND (power) "Digital Ground.", 18 AGND (power) "Analog Ground.", 19 VOUT (hiz) "DAC Voltage Output.", 20 VREF (in) "DAC Reference Input. Establishes the DAC full-scale voltage."

## AD7392ARZ-REEL
designator U?
Single 12-Bit Digital-to-Analog Converter with Parallel Interface, 3 V, -40 to +85 degC, RW-20, Pb-Free, Reel; Generic Part Number: AD7392; Manufacturer: Analog Devices; PartNumber: AD7392ARZ-REEL; # DAC Outputs: 1; Max V+: 5.5V; Op Pwr Diss: 300µW; Resolution (Bits): 12; Settling Time: 60µs; Single Supply: Yes; DatasheetVersion: Rev.C; PackageVersion: 060706-A; PackageReference: RW-20; PackageDescription: 20-Lead Standard Small Outline Package [SOIC_W] Wide Body; Supplier 1: Digi-Key; Supplier Part Number 1: AD7392ARZ-REEL-ND; Supplier 2: Mouser; Supplier Part Number 2: 584-AD7392ARZ-R; Packing: Reel; RoHS: Y; Mounting Technology: Surface Mount; Code_JEDEC: MS-013-AC; ComponentLink1Description: Manufacturer URL; ComponentLink1URL: http://www.analog.com/en/index.html; ComponentLink2Description: Datasheet; ComponentLink2URL: http://www.analog.com/static/imported-files/data_sheets/AD7392_7393.pdf; ComponentLink3Description: Package Specification; ComponentLink3URL: http://www.analog.com/static/imported-files/packages/233848RW_20.pdf; ComponentLink4Description: Product URL; ComponentLink4URL: http://www.analog.com/en/digital-to-analog-converters/da-converters/ad7392/products/product.html
footprint RW-20_N (SOIC, 20-Leads, Body 12.8x7.5mm, Pitch 1.27mm, IPC Medium Density)
footprint RW-20_L (SOIC, 20-Leads, Body 12.8x7.5mm, Pitch 1.27mm, IPC High Density)
footprint RW-20_M (SOIC, 20-Leads, Body 12.8x7.5mm, Pitch 1.27mm, IPC Low Density)
pins: 1 VDD (power) "Positive Power Supply Input. The specified range of operation is 2.7 V to 5.5 V.", 2 ~{SHDN} (in) "Power Shutdown Active Low Input. DAC register contents are saved as long as power stays on the VDD pin. When S\H\D\N\ = 0, C\S\ strobes write new data into the DAC register.", 3 ~{CS} (in) "Chip Select Latch Enable, Active Low.", 4 ~{RS} (in) "Asynchronous Active Low Input. Resets the DAC register to 0.", 5 D0 (in) "Parallel Input Data Bit. D0 is the LSB.", 6 D1 (in) "Parallel Input Data Bit.", 7 D2 (in) "Parallel Input Data Bit.", 8 D3 (in) "Parallel Input Data Bit.", 9 D4 (in) "Parallel Input Data Bit.", 10 D5 (in) "Parallel Input Data Bit.", 11 D6 (in) "Parallel Input Data Bit.", 12 D7 (in) "Parallel Input Data Bit.", 13 D8 (in) "Parallel Input Data Bit.", 14 D9 (in) "Parallel Input Data Bit.", 15 D10 (in) "Parallel Input Data Bit.", 16 D11 (in) "Parallel Input Data Bit.D11 is the MSB.", 17 DGND (power) "Digital Ground.", 18 AGND (power) "Analog Ground.", 19 VOUT (hiz) "DAC Voltage Output.", 20 VREF (in) "DAC Reference Input. Establishes the DAC full-scale voltage."

## AD7394ARZ
designator U?
Dual 12-Bit Digital-to-Analog Converter with Serial Interface, 3 V / 5 V, -40 to +85 degC, R-14, Pb-Free, Tube; Generic Part Number: AD7394; Manufacturer: Analog Devices; PartNumber: AD7394ARZ; # DAC Outputs: 2; Max V+: 5.5V; Op Pwr Diss: 1mW; Resolution (Bits): 12; Settling Time: 60µs; Single Supply: Yes; DatasheetVersion: Rev.A; PackageVersion: 060606-A; PackageReference: R-14; PackageDescription: 14-Lead Standard Small Outline Package [SOIC_N]; Supplier 1: Digi-Key; Supplier Part Number 1: AD7394ARZ-ND; Supplier 2: Newark; Supplier Part Number 2: 59K4766; Supplier 3: Mouser; Supplier Part Number 3: N/A; Packing: Tube; RoHS: Y; Mounting Technology: Surface Mount; Code_JEDEC: MS-012-AB; Code_IPC: SOIC127P600-14; ComponentLink1Description: Manufacturer URL; ComponentLink1URL: http://www.analog.com/en/index.html; ComponentLink2Description: Datasheet; ComponentLink2URL: http://www.analog.com/static/imported-files/data_sheets/AD7394.pdf; ComponentLink3Description: Package Specification; ComponentLink3URL: http://www.analog.com/static/imported-files/packages/PKG_PDF/SOIC_Narrow%20(R)/R_14.pdf; ComponentLink4Description: Product URL; ComponentLink4URL: http://www.analog.com/en/digital-to-analog-converters/da-converters/ad7394/products/product.html
footprint R-14_N (SOIC, 14-Leads, Body 8.7x3.9mm, Pitch 1.27mm, IPC Medium Density)
footprint R-14_L (SOIC, 14-Leads, Body 8.7x3.9mm, Pitch 1.27mm, IPC High Density)
footprint R-14_M (SOIC, 14-Leads, Body 8.7x3.9mm, Pitch 1.27mm, IPC Low Density)
pins: 1 AGND (power) "Analog Ground", 2 VOUTA (hiz) "DAC A Voltage Output.", 3 VREF (in) "DAC Reference Voltage Input Terminal. Establishes DAC full-scale output voltage. Pin can be tied to VDD pin.", 4 DGND (power) "Digital Ground. Should be tied to analog GND", 5 ~{CS} (in) "Chip Select, Active Low Input. Disables shift register loading when high. Does not affect L\D\A\ or L\D\B\ operation.", 6 CLK (in) "Clock Input. Positive edge clocks data into shift register, MSB data bit first.", 7 SDI (in) "Serial Data Input. Input data loads directly into the shift register", 8 ~{LDA} (in) "Load DAC Register Strobe. Level sensitive active low. Transfers shift register data to DAC A register. Asynchronous active low input. See Table 2 for operation", 9 ~{RS} (in) "Resets DAC register to zero condition or half-scale, depending on MSB pin logic level. Asynchronous active low input.", 10 ~{LDB} (in) "Load DAC Register Strobe. Level-sensitive active low. Transfers shift register data to DAC B register. Asynchronous active low input. See Table 2 for operation", 11 MSB (in) "Digital Input. Logic High presets DAC registers to half-scale 800H (sets MSB bit to one) when the R\S\ pin is strobed; logic low clears all DAC registers to zero (000H) when the R\S\ pin is strobed.", 12 ~{SHDN} (in) "Active Low Shutdown Control Input. Does not affect register contents as long as power is present on VDD. New data can be loaded into the shift register and DAC register during shutdown. When device is powered up the most (See Datasheet)", 13 VDD (power) "Positive Power Supply Input. Specified range of operation is 2.7 V to 5.5 V", 14 VOUTB (hiz) "DAC B Voltage Output."

## AD7394ARZ-REEL7
designator U?
Dual 12-Bit Digital-to-Analog Converter with Serial Interface, 3 V / 5 V, -40 to +85 degC, R-14, Pb-Free, Reel; Generic Part Number: AD7394; Manufacturer: Analog Devices; PartNumber: AD7394ARZ-REEL7; # DAC Outputs: 2; Max V+: 5.5V; Op Pwr Diss: 1mW; Resolution (Bits): 12; Settling Time: 60µs; Single Supply: Yes; DatasheetVersion: Rev.A; PackageVersion: 060606-A; PackageReference: R-14; PackageDescription: 14-Lead Standard Small Outline Package [SOIC_N]; Supplier 1: Digi-Key; Supplier Part Number 1: AD7394ARZ-REEL7-ND; Supplier 2: Newark; Supplier Part Number 2: 59K4767; Supplier 3: Mouser; Supplier Part Number 3: N/A; Packing: Reel; RoHS: Y; Mounting Technology: Surface Mount; Code_JEDEC: MS-012-AB; Code_IPC: SOIC127P600-14; ComponentLink1Description: Manufacturer URL; ComponentLink1URL: http://www.analog.com/en/index.html; ComponentLink2Description: Datasheet; ComponentLink2URL: http://www.analog.com/static/imported-files/data_sheets/AD7394.pdf; ComponentLink3Description: Package Specification; ComponentLink3URL: http://www.analog.com/static/imported-files/packages/PKG_PDF/SOIC_Narrow%20(R)/R_14.pdf; ComponentLink4Description: Product URL; ComponentLink4URL: http://www.analog.com/en/digital-to-analog-converters/da-converters/ad7394/products/product.html
footprint R-14_N (SOIC, 14-Leads, Body 8.7x3.9mm, Pitch 1.27mm, IPC Medium Density)
footprint R-14_L (SOIC, 14-Leads, Body 8.7x3.9mm, Pitch 1.27mm, IPC High Density)
footprint R-14_M (SOIC, 14-Leads, Body 8.7x3.9mm, Pitch 1.27mm, IPC Low Density)
pins: 1 AGND (power) "Analog Ground", 2 VOUTA (hiz) "DAC A Voltage Output.", 3 VREF (in) "DAC Reference Voltage Input Terminal. Establishes DAC full-scale output voltage. Pin can be tied to VDD pin.", 4 DGND (power) "Digital Ground. Should be tied to analog GND", 5 ~{CS} (in) "Chip Select, Active Low Input. Disables shift register loading when high. Does not affect L\D\A\ or L\D\B\ operation.", 6 CLK (in) "Clock Input. Positive edge clocks data into shift register, MSB data bit first.", 7 SDI (in) "Serial Data Input. Input data loads directly into the shift register", 8 ~{LDA} (in) "Load DAC Register Strobe. Level sensitive active low. Transfers shift register data to DAC A register. Asynchronous active low input. See Table 2 for operation", 9 ~{RS} (in) "Resets DAC register to zero condition or half-scale, depending on MSB pin logic level. Asynchronous active low input.", 10 ~{LDB} (in) "Load DAC Register Strobe. Level-sensitive active low. Transfers shift register data to DAC B register. Asynchronous active low input. See Table 2 for operation", 11 MSB (in) "Digital Input. Logic High presets DAC registers to half-scale 800H (sets MSB bit to one) when the R\S\ pin is strobed; logic low clears all DAC registers to zero (000H) when the R\S\ pin is strobed.", 12 ~{SHDN} (in) "Active Low Shutdown Control Input. Does not affect register contents as long as power is present on VDD. New data can be loaded into the shift register and DAC register during shutdown. When device is powered up the most (See Datasheet)", 13 VDD (power) "Positive Power Supply Input. Specified range of operation is 2.7 V to 5.5 V", 14 VOUTB (hiz) "DAC B Voltage Output."

## AD7396AR
designator U?
Dual 12-Bit Digital-to-Analog Converter with Parallel Interface, 3 V, -40 to +85 degC, RW-24, Tube; Generic Part Number: AD7396; Manufacturer: Analog Devices; PartNumber: AD7396AR; # DAC Outputs: 2; Max V+: 5.5V; Op Pwr Diss: 1mW; Resolution (Bits): 12; Settling Time: 60µs; Single Supply: Yes; DatasheetVersion: Rev.0; PackageVersion: 060706-A; PackageReference: RW-24; PackageDescription: 24-Lead Standard Small Outline Package [SOIC_W]; Supplier 1: Digi-Key; Supplier Part Number 1: AD7396AR-ND; Supplier 2: Mouser; Supplier Part Number 2: 584-AD7396AR; Packing: Tube; RoHS: N; Mounting Technology: Surface Mount; Code_JEDEC: MS-013-AD; ComponentLink1Description: Manufacturer URL; ComponentLink1URL: http://www.analog.com/en/index.html; ComponentLink2Description: Datasheet; ComponentLink2URL: http://www.analog.com/static/imported-files/data_sheets/AD7396_7397.pdf; ComponentLink3Description: Package Specification; ComponentLink3URL: http://www.analog.com/static/imported-files/packages/33665150946139RW_24.pdf; ComponentLink4Description: Product URL; ComponentLink4URL: http://www.analog.com/en/digital-to-analog-converters/da-converters/ad7396/products/product.html
footprint RW-24_N (SOIC, 24-Leads, Body 15.4x7.5mm, Pitch 1.27mm, IPC Medium Density)
footprint RW-24_L (SOIC, 24-Leads, Body 15.4x7.5mm, Pitch 1.27mm, IPC High Density)
footprint RW-24_M (SOIC, 24-Leads, Body 15.4x7.5mm, Pitch 1.27mm, IPC Low Density)
pins: 1 VOUTA (hiz) "DAC A Voltage Output.", 2 AGND (power) "Analog Ground.", 3 DGND (power) "Digital Ground.", 4 ~{LDA} (in) "Load DAC A Register Strobe. Transfers input register data to the DAC A register. Active low inputs, Level sensitive latch. May be connected together with L\D\B\ to double-buffer load both DAC register simulataneously.", 5 ~{SHDN} (in) "Power Shutdown Active Low Input. DAC register contents are saved as long as power stays on the VDD pin.", 6 ~{RS} (in) "Resets Input and DAC Register to Zero Condition. Asynchronous active low input.", 7 D0 (in) "Twelve Parallel Input Data Bit. D0 = LSB Pin 7, AD7396.", 8 D1 (in) "Twelve Parallel Input Data Bit.", 9 D2 (in) "Twelve Parallel Input Data Bit.", 10 D3 (in) "Twelve Parallel Input Data Bit.", 11 D4 (in) "Twelve Parallel Input Data Bit.", 12 D5 (in) "Twelve Parallel Input Data Bit.", 13 D6 (in) "Twelve Parallel Input Data Bit.", 14 D7 (in) "Twelve Parallel Input Data Bit.", 15 D8 (in) "Twelve Parallel Input Data Bit.", 16 D9 (in) "Twelve Parallel Input Data Bit.", 17 D10 (in) "Twelve Parallel Input Data Bit.", 18 D11 (in) "Twelve Parallel Input Data Bit. D11 = MSB Pin 18, AD7396.", 19 ~{CS} (in) "Chip Select Latch Enable, Active Low.", 20 A/~{B} (in) "DAC Input Register Address Select DACA = 1 or DACB = 0.", 21 ~{LDB} (in) "Load DAC B Register Strobe. Transfers input register data to the DAC B register. Active low inputs, Level sensitive latch. May be connected together with L\D\A\ to double-buffer load both DAC registers simultaneously.", 22 VDD (power) "Positive Power Supply Input. Specified range of operation +2.7 V to +5.5 V.", 23 VREF (in) "DAC Reference Input Pin. Establishes DAC full-scale voltage.", 24 VOUTB (hiz) "DAC B Voltage Output."

## AD7396AR-REEL
designator U?
Dual 12-Bit Digital-to-Analog Converter with Parallel Interface, 3 V, -40 to +85 degC, RW-24, Reel; Generic Part Number: AD7396; Manufacturer: Analog Devices; PartNumber: AD7396AR-REEL; # DAC Outputs: 2; Max V+: 5.5V; Op Pwr Diss: 1mW; Resolution (Bits): 12; Settling Time: 60µs; Single Supply: Yes; DatasheetVersion: Rev.0; PackageVersion: 060706-A; PackageReference: RW-24; PackageDescription: 24-Lead Standard Small Outline Package [SOIC_W]; Supplier 1: Digi-Key; Supplier Part Number 1: AD7396AR-REEL-ND; Supplier 2: Mouser; Supplier Part Number 2: 584-AD7396AR-R; Packing: Reel; RoHS: N; Mounting Technology: Surface Mount; Code_JEDEC: MS-013-AD; ComponentLink1Description: Manufacturer URL; ComponentLink1URL: http://www.analog.com/en/index.html; ComponentLink2Description: Datasheet; ComponentLink2URL: http://www.analog.com/static/imported-files/data_sheets/AD7396_7397.pdf; ComponentLink3Description: Package Specification; ComponentLink3URL: http://www.analog.com/static/imported-files/packages/33665150946139RW_24.pdf; ComponentLink4Description: Product URL; ComponentLink4URL: http://www.analog.com/en/digital-to-analog-converters/da-converters/ad7396/products/product.html
footprint RW-24_N (SOIC, 24-Leads, Body 15.4x7.5mm, Pitch 1.27mm, IPC Medium Density)
footprint RW-24_L (SOIC, 24-Leads, Body 15.4x7.5mm, Pitch 1.27mm, IPC High Density)
footprint RW-24_M (SOIC, 24-Leads, Body 15.4x7.5mm, Pitch 1.27mm, IPC Low Density)
pins: 1 VOUTA (hiz) "DAC A Voltage Output.", 2 AGND (power) "Analog Ground.", 3 DGND (power) "Digital Ground.", 4 ~{LDA} (in) "Load DAC A Register Strobe. Transfers input register data to the DAC A register. Active low inputs, Level sensitive latch. May be connected together with L\D\B\ to double-buffer load both DAC register simulataneously.", 5 ~{SHDN} (in) "Power Shutdown Active Low Input. DAC register contents are saved as long as power stays on the VDD pin.", 6 ~{RS} (in) "Resets Input and DAC Register to Zero Condition. Asynchronous active low input.", 7 D0 (in) "Twelve Parallel Input Data Bit. D0 = LSB Pin 7, AD7396.", 8 D1 (in) "Twelve Parallel Input Data Bit.", 9 D2 (in) "Twelve Parallel Input Data Bit.", 10 D3 (in) "Twelve Parallel Input Data Bit.", 11 D4 (in) "Twelve Parallel Input Data Bit.", 12 D5 (in) "Twelve Parallel Input Data Bit.", 13 D6 (in) "Twelve Parallel Input Data Bit.", 14 D7 (in) "Twelve Parallel Input Data Bit.", 15 D8 (in) "Twelve Parallel Input Data Bit.", 16 D9 (in) "Twelve Parallel Input Data Bit.", 17 D10 (in) "Twelve Parallel Input Data Bit.", 18 D11 (in) "Twelve Parallel Input Data Bit. D11 = MSB Pin 18, AD7396.", 19 ~{CS} (in) "Chip Select Latch Enable, Active Low.", 20 A/~{B} (in) "DAC Input Register Address Select DACA = 1 or DACB = 0.", 21 ~{LDB} (in) "Load DAC B Register Strobe. Transfers input register data to the DAC B register. Active low inputs, Level sensitive latch. May be connected together with L\D\A\ to double-buffer load both DAC registers simultaneously.", 22 VDD (power) "Positive Power Supply Input. Specified range of operation +2.7 V to +5.5 V.", 23 VREF (in) "DAC Reference Input Pin. Establishes DAC full-scale voltage.", 24 VOUTB (hiz) "DAC B Voltage Output."